# Altium footprint library ResistorLibrary.PcbLib: 25 footprints (part 2 of 2)
Each footprint in its own frame and in the unit in brackets; x right, y up, seen from the top. Pads: shape width x height; smd on the part's side, far side on the other; paste and mask are expansions set on the pad; w line width, h text height; cw(c..) or ccw(c..) is an arc to the next point about the centre after c.
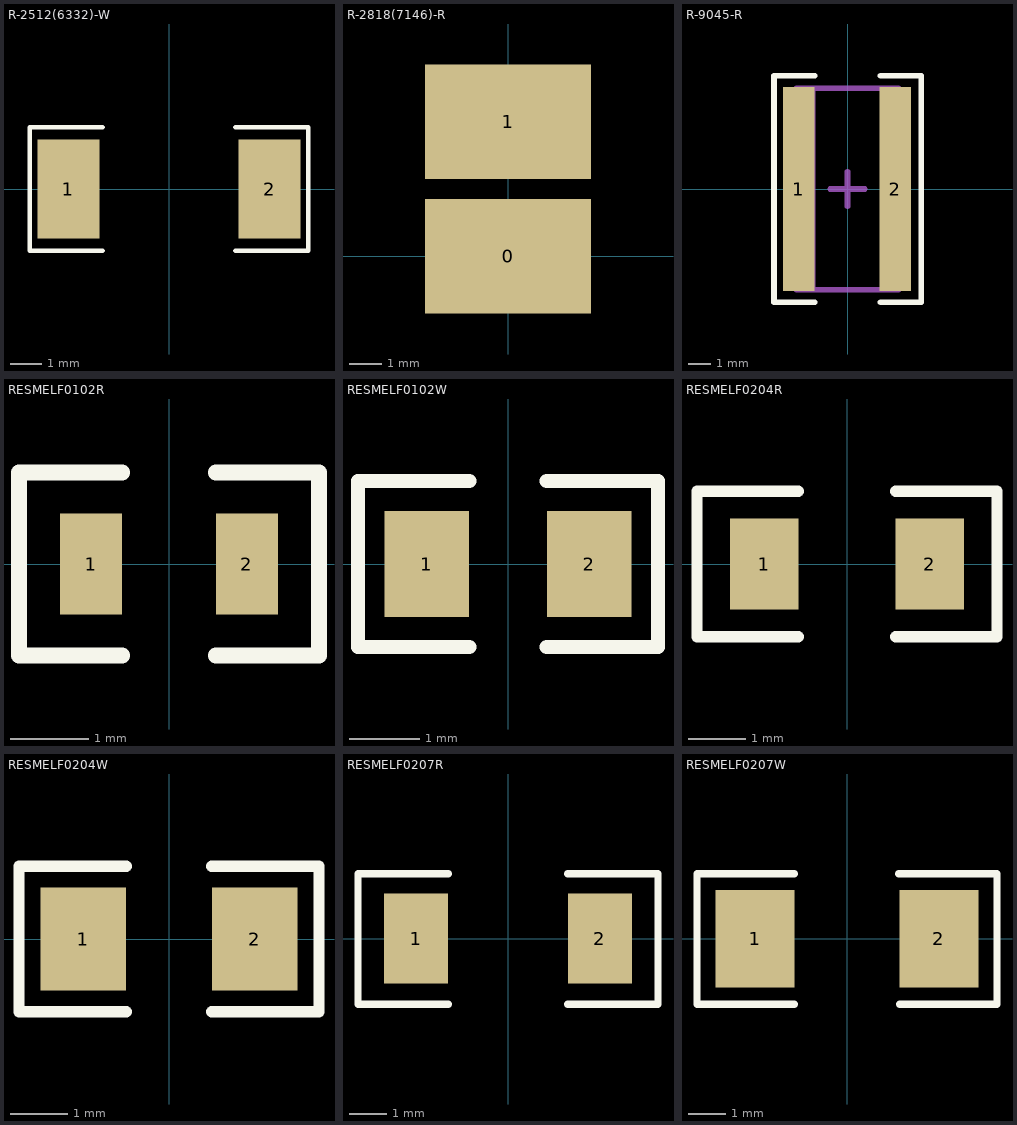
[diagram p1: the footprints below, top view; thin cyan lines are the x and y axes]

## R-2512(6332)-W [mm] "Resistor 2512(6332) Wave"
pads (2):
  rect 2x3.2 smd: 1(-3.25,0) 2(3.25,0)
Top Overlay:
  lines w0.152: -2.15,-2 -4.5,-2 -4.5,2 -2.15,2 ; 2.15,-2 4.5,-2 4.5,2 2.15,2
3D body "res2512.stp": height 0.55, standoff 0, extent -3.15,-1.55 3.15,1.55

## R-2818(7146)-R [mil]
pads (2):
  rect 200x138 smd: 0(0,0) 1(0,162)
3D body "WSHM2818.STEP": height 58.53, standoff -0.47, extent -95,-62.49 95,227.51

## R-9045-R [mm] "Resistor 4W Metal Foil Current Sense FCSL series OHMITE"
height 0.5
pads (2):
  rect 1.4x9 smd: 1(-2.15,0) 2(2.1,0)
Top Overlay:
  lines w0.254: -1.45,-5 -3.25,-5 -3.25,0 -3.25,5 -1.45,5 ; 1.45,-5 3.25,-5 3.25,0 3.25,5 1.45,5
Mechanical 15:
  lines w0.254: -1.55,-4.45 -1.55,4.45 ; -0.762,0 0.762,0 ; 0,-0.762 0,0.762 ; 1.55,-4.45 1.55,4.45 ; -2.25,-4.45 2.25,-4.45 2.25,4.45 -2.25,4.45 -2.25,-4.45
3D body: height 0.5, standoff 0.25, extent -2.25,-4.45 2.25,4.45
3D body: height 0.25, standoff 0, extent 1.55,-4.45 2.25,4.45
3D body: height 0.25, standoff 0, extent -2.25,-4.45 -1.55,4.45

## RESMELF0102R [mm] "MELF resistor 0102 reflow soldering"
pads (2):
  rect 0.8x1.3 smd: 1(-1,0) 2(1,0)
Top Overlay:
  lines w0.203: -0.6,-1.175 -1.925,-1.175 -1.925,1.175 -0.6,1.175 ; 0.6,-1.175 1.925,-1.175 1.925,1.175 0.6,1.175
3D body "RESMELF0102.stp": height 1.1, standoff 0, extent -1.099,-0.55 1.099,0.55

## RESMELF0102W [mm] "MELF resistor 0102 wave soldering"
pads (2):
  rect 1.2x1.5 smd: 1(-1.15,0) 2(1.15,0)
Top Overlay:
  lines w0.203: -0.55,-1.175 -2.125,-1.175 -2.125,1.175 -0.55,1.175 ; 0.55,-1.175 2.125,-1.175 2.125,1.175 0.55,1.175
3D body "RESMELF0102.stp": height 1.1, standoff 0, extent -1.099,-0.55 1.099,0.55

## RESMELF0204R [mm] "MELF resistor 0204 reflow soldering"
pads (2):
  rect 1.2x1.6 smd: 1(-1.45,0) 2(1.45,0)
Top Overlay:
  lines w0.2: -0.85,-1.275 -2.625,-1.275 -2.625,1.275 -0.85,1.275 ; 0.85,-1.275 2.625,-1.275 2.625,1.275 0.85,1.275
3D body "RESMELF0204.stp": height 1.4, standoff 0, extent -1.8,-0.7 1.8,0.7

## RESMELF0204W [mm] "MELF resistor 0204 wave soldering"
pads (2):
  rect 1.5x1.8 smd: 1(-1.5,0) 2(1.5,0)
Top Overlay:
  lines w0.2: -0.75,-1.275 -2.625,-1.275 -2.625,1.275 -0.75,1.275 ; 0.75,-1.275 2.625,-1.275 2.625,1.275 0.75,1.275
3D body "RESMELF0204.stp": height 1.4, standoff 0, extent -1.8,-0.7 1.8,0.7

## RESMELF0207R [mm] "MELF resistor 0207 reflow soldering"
pads (2):
  rect 1.7x2.4 smd: 1(-2.45,0) 2(2.45,0)
Top Overlay:
  lines w0.2: -1.6,-1.75 -4,-1.75 -4,1.725 -1.6,1.725 ; 1.6,-1.75 4,-1.75 4,1.725 1.6,1.725
3D body "RESMELF0207.stp": height 2.26, standoff 0, extent -2.9,-1.125 2.9,1.131

## RESMELF0207W [mm] "MELF resistor 0207 wave soldering"
pads (2):
  rect 2.1x2.6 smd: 1(-2.45,0) 2(2.45,0)
Top Overlay:
  lines w0.2: -1.4,-1.75 -4,-1.75 -4,1.725 -1.4,1.725 ; 1.375,1.725 4,1.725 4,-1.75 1.4,-1.75
3D body "RESMELF0207.stp": height 2.26, standoff 0, extent -2.9,-1.125 2.9,1.131